# Altium footprint library JST_S2B_PH_SM4_TB_LF_SN__0.PcbLib: 1 footprints
Each footprint in its own frame and in the unit in brackets; x right, y up, seen from the top. Pads: shape width x height; smd on the part's side, far side on the other; paste and mask are expansions set on the pad; w line width, h text height; cw(c..) or ccw(c..) is an arc to the next point about the centre after c.
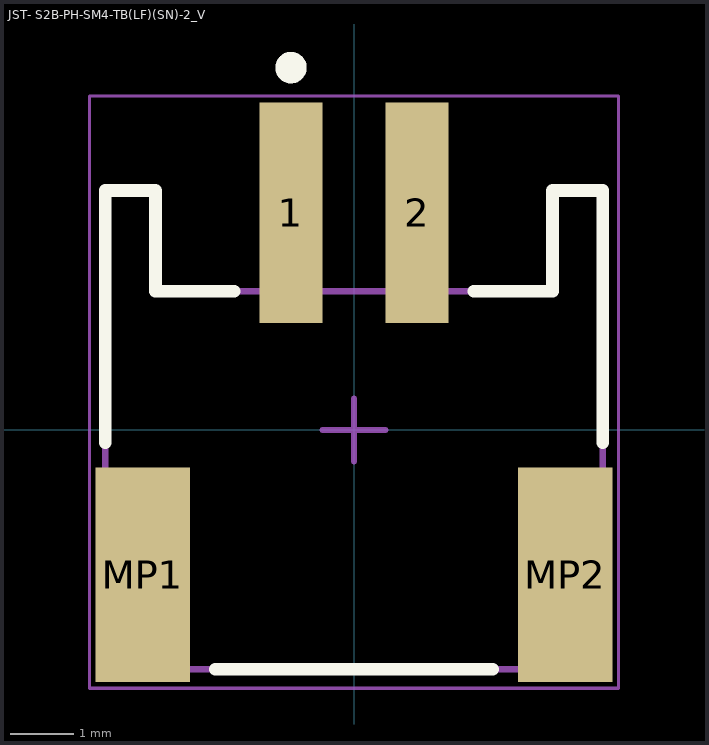
[diagram p0: the footprint, top view; thin cyan lines are the x and y axes]

## JST- S2B-PH-SM4-TB(LF)(SN)-2_V [mm] "SMD, 2-Leads, Body 7.9x7.6mm, Pitch 2mm"
height 5.5
pads (4):
  rect 1x3.5 smd: 1(-1,3.45) 2(1,3.45)
  rect 1.5x3.4 smd: MP1(-3.35,-2.3) MP2(3.35,-2.3)
Top Overlay:
  circle w0.25: c-1,5.75 r0.125
  lines w0.2: -3.95,-0.2 -3.95,3.8 -3.15,3.8 -3.15,2.2 -1.9,2.2 ; -2.2,-3.8 2.2,-3.8 ; 1.9,2.2 3.15,2.2 3.15,3.8 3.95,3.8 3.95,-0.2
Mechanical 13:
  lines w0.1: -3.95,-3 -3.95,3.8 -3.15,3.8 -3.15,2.2 3.15,2.2 3.15,3.8 3.95,3.8 3.95,-3 3.45,-3 3.45,-3.8 -3.45,-3.8 -3.45,-3 -3.95,-3
Mechanical 15:
  lines w0.05: -4.2,-4.1 4.2,-4.1 4.2,5.3 -4.2,5.3 -4.2,-4.1
  lines w0.1: -0.5,0 0.5,0 ; 0,-0.5 0,0.5
3D body: height 5.6, standoff 0, extent -3.95,-3.8 3.95,4.8